# Altium schematic symbol library Schlib1.SchLib: 3 symbols
Pins are listed as number, name and electrical type; pins without a type are passive.

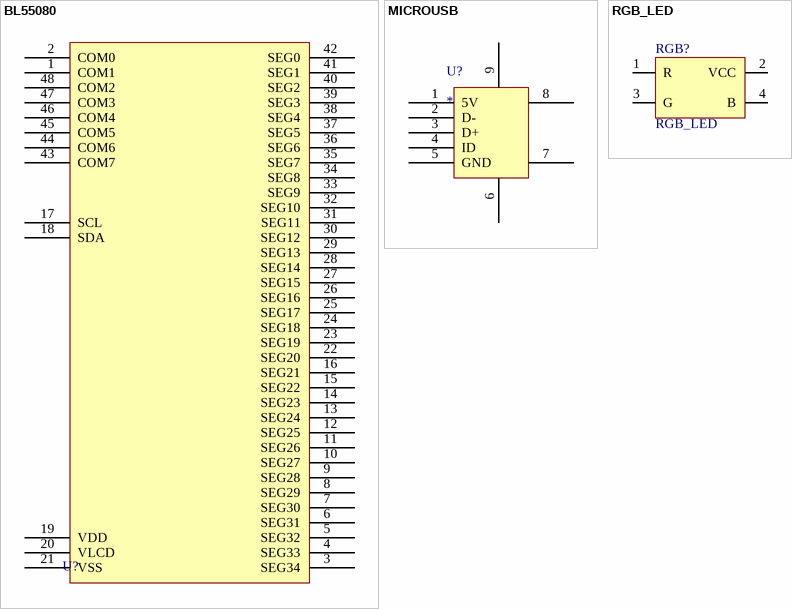
[diagram p0: symbols BL55080 to RGB_LED]

## BL55080
designator U?  (value not drawn)
LQFP48
pins: 1 COM1, 2 COM0, 3 SEG34, 4 SEG33, 5 SEG32, 6 SEG31, 7 SEG30, 8 SEG29, 9 SEG28, 10 SEG27, 11 SEG26, 12 SEG25, 13 SEG24, 14 SEG23, 15 SEG22, 16 SEG21, 17 SCL, 18 SDA, 19 VDD, 20 VLCD, 21 VSS, 22 SEG20, 23 SEG19, 24 SEG18, 25 SEG17, 26 SEG16, 27 SEG15, 28 SEG14, 29 SEG13, 30 SEG12, 31 SEG11, 32 SEG10, 33 SEG9, 34 SEG8, 35 SEG7, 36 SEG6, 37 SEG5, 38 SEG4, 39 SEG3, 40 SEG2, 41 SEG1, 42 SEG0, 43 COM7, 44 COM6, 45 COM5, 46 COM4, 47 COM3, 48 COM2

## MICROUSB
designator U?
footprint micro usb
pins: 1 5V, 2 D-, 3 D+, 4 ID, 5 GND, 6, 7, 8, 9

## RGB_LED
designator RGB?
三色高亮LED
footprint RGB3528
pins: 1 R, 2 VCC, 3 G, 4 B